# EAGLE library part FTSH-119-04-L-DV (library SamacSys_Parts)
38 Position, High Reliability Header Strips, 0.050" pitch Source: Datasheet <https://componentsearchengine.com/Datasheets/1/FTSH-119-04-L-DV.pdf>
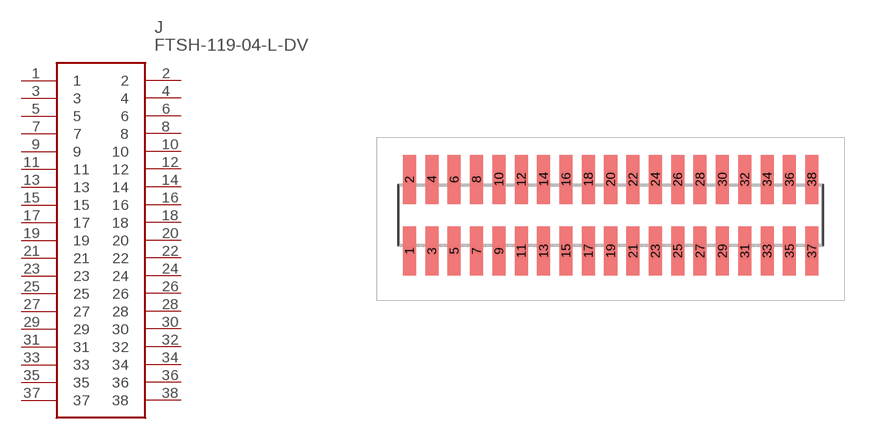
[diagram p7: symbol with the pads of FTSH-119-XX-YYY-DV; footprint FTSH-119-XX-YYY-DV]

Designator prefix J

## FTSH-119-04-L-DV (DESCRIPTION: 38 Position, High Reliability Header Strips, 0.050&quot; pitch; HEIGHT: mm; MANUFACTURER_NAME: SAMTEC; MANUFACTURER_PART_NUMBER: FTSH-119-04-L-DV; MOUSER_PART_NUMBER: 200-FTSH11904LDV; MOUSER_PRICE-STOCK: https://www.mouser.com/Search/Refine.aspx?Keyword=200-FTSH11904LDV)  [FTSH-119-XX-YYY-DV]
1  1
2  2
3  3
4  4
5  5
6  6
7  7
8  8
9  9
10  10
11  11
12  12
13  13
14  14
15  15
16  16
17  17
18  18
19  19
20  20
21  21
22  22
23  23
24  24
25  25
26  26
27  27
28  28
29  29
30  30
31  31
32  32
33  33
34  34
35  35
36  36
37  37
38  38

## Footprint FTSH-119-XX-YYY-DV (pad centres in mm)
FTSH-119-XX-YYY-DV
smd 0.74 x 2.79: 1 -11.43,-2.035; 2 -11.43,2.035; 3 -10.16,-2.035; 4 -10.16,2.035; 5 -8.89,-2.035; 6 -8.89,2.035; 7 -7.62,-2.035; 8 -7.62,2.035; 9 -6.35,-2.035; 10 -6.35,2.035; 11 -5.08,-2.035; 12 -5.08,2.035; 13 -3.81,-2.035; 14 -3.81,2.035; 15 -2.54,-2.035; 16 -2.54,2.035; 17 -1.27,-2.035; 18 -1.27,2.035; 19 0,-2.035; 20 0,2.035; 21 1.27,-2.035; 22 1.27,2.035; 23 2.54,-2.035; 24 2.54,2.035; 25 3.81,-2.035; 26 3.81,2.035; 27 5.08,-2.035; 28 5.08,2.035; 29 6.35,-2.035; 30 6.35,2.035; 31 7.62,-2.035; 32 7.62,2.035; 33 8.89,-2.035; 34 8.89,2.035; 35 10.16,-2.035; 36 10.16,2.035; 37 11.43,-2.035; 38 11.43,2.035